# Altium schematic symbol library AMS1117 Breakout Board.SchLib: 1 symbol
Pins are listed as number, name and electrical type; pins without a type are passive.

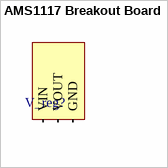
[diagram p0: symbol AMS1117 Breakout Board]

## AMS1117 Breakout Board
designator V_reg?
footprint AMS1117 Breakout Board
pins: GND (power), VIN (power), VOUT (power)